# Altium schematic symbol library 接插件-未分类.SchLib: 1 symbol
Pins are listed as number, name and electrical type; pins without a type are passive.

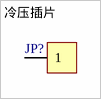
[diagram p0: symbol 冷压插片]

## 冷压插片
designator JP?
BOM名称: 10P接插件; 版权归属: 源创客; 学习资源: www.ooocke.com
footprint DJ610-4.8x0.5x14 (宽：4.8mm，厚0.5mm，高：14mm)
footprint DJ6113-6.3x0.8x13 (宽：6.3mm，厚0.8mm，高：13mm)
footprint DJ6113-6.3x0.8x19.5 (宽：6.3mm，厚0.8mm，高：19.5mm)
footprint DJ6138-6.3x0.8x13 (宽：6.3mm，厚0.8mm，高：13mm)
footprint DJ6111-6.3x0.8x13 (宽：6.3mm，厚0.8mm，高：13mm)
pins: 1